# EAGLE library part ATMEGA32U2 (library Atmel)
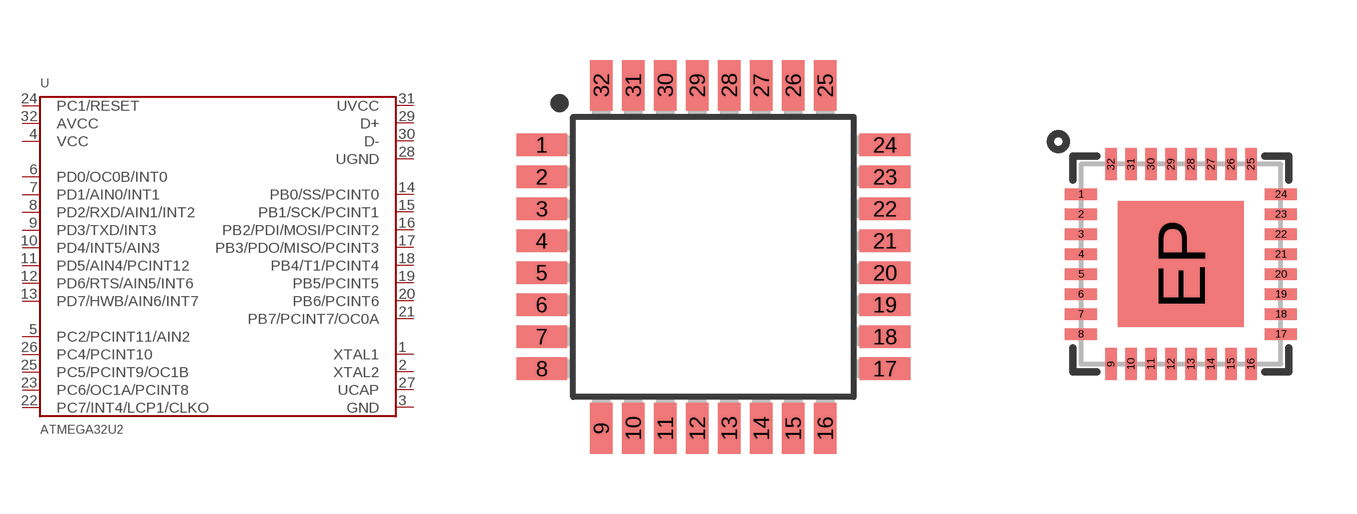
[diagram p1: symbol with the pads of TQFP-32; footprints TQFP-32, QFN-32]

Designator prefix U

## ATMEGA32U2-TQFP32  [TQFP-32]
1  XTAL1
2  XTAL2
3  GND
4  VCC
5  PC2/PCINT11/AIN2
6  PD0/OC0B/INT0
7  PD1/AIN0/INT1
8  PD2/RXD/AIN1/INT2
9  PD3/TXD/INT3
10  PD4/INT5/AIN3
11  PD5/AIN4/PCINT12
12  PD6/RTS/AIN5/INT6
13  PD7/HWB/AIN6/INT7
14  PB0/SS/PCINT0
15  PB1/SCK/PCINT1
16  PB2/PDI/MOSI/PCINT2
17  PB3/PDO/MISO/PCINT3
18  PB4/T1/PCINT4
19  PB5/PCINT5
20  PB6/PCINT6
21  PB7/PCINT7/OC0A
22  PC7/INT4/LCP1/CLKO
23  PC6/OC1A/PCINT8
24  PC1/RESET
25  PC5/PCINT9/OC1B
26  PC4/PCINT10
27  UCAP
28  UGND
29  D+
30  D-
31  UVCC
32  AVCC

## ATMEGA32U2-QFN32  [QFN-32]
1  XTAL1
2  XTAL2
3  GND
4  VCC
5  PC2/PCINT11/AIN2
6  PD0/OC0B/INT0
7  PD1/AIN0/INT1
8  PD2/RXD/AIN1/INT2
9  PD3/TXD/INT3
10  PD4/INT5/AIN3
11  PD5/AIN4/PCINT12
12  PD6/RTS/AIN5/INT6
13  PD7/HWB/AIN6/INT7
14  PB0/SS/PCINT0
15  PB1/SCK/PCINT1
16  PB2/PDI/MOSI/PCINT2
17  PB3/PDO/MISO/PCINT3
18  PB4/T1/PCINT4
19  PB5/PCINT5
20  PB6/PCINT6
21  PB7/PCINT7/OC0A
22  PC7/INT4/LCP1/CLKO
23  PC6/OC1A/PCINT8
24  PC1/RESET
25  PC5/PCINT9/OC1B
26  PC4/PCINT10
27  UCAP
28  UGND
29  D+
30  D-
31  UVCC
32  AVCC
EP  GND

## Footprint TQFP-32 (pad centres in mm)
smd 1.27 x 0.559: 1 -4.293,2.8; 2 -4.293,2; 3 -4.293,1.2; 4 -4.293,0.4; 5 -4.293,-0.4; 6 -4.293,-1.2; 7 -4.293,-2; 8 -4.293,-2.8; 17 4.293,-2.8; 18 4.293,-2; 19 4.293,-1.2; 20 4.293,-0.4; 21 4.293,0.4; 22 4.293,1.2; 23 4.293,2; 24 4.293,2.8
smd 0.559 x 1.27: 9 -2.8,-4.293; 10 -2,-4.293; 11 -1.2,-4.293; 12 -0.4,-4.293; 13 0.4,-4.293; 14 1.2,-4.293; 15 2,-4.293; 16 2.8,-4.293; 25 2.8,4.293; 26 2,4.293; 27 1.2,4.293; 28 0.4,4.293; 29 -0.4,4.293; 30 -1.2,4.293; 31 -2,4.293; 32 -2.8,4.293

## Footprint QFN-32 (pad centres in mm)
smd 0.8 x 0.285: 1 -2.5,1.75; 2 -2.5,1.25; 3 -2.5,0.75; 4 -2.5,0.25; 5 -2.5,-0.25; 6 -2.5,-0.75; 7 -2.5,-1.25; 8 -2.5,-1.75; 17 2.5,-1.75; 18 2.5,-1.25; 19 2.5,-0.75; 20 2.5,-0.25; 21 2.5,0.25; 22 2.5,0.75; 23 2.5,1.25; 24 2.5,1.75
smd 0.285 x 0.8: 9 -1.75,-2.5; 10 -1.25,-2.5; 11 -0.75,-2.5; 12 -0.25,-2.5; 13 0.25,-2.5; 14 0.75,-2.5; 15 1.25,-2.5; 16 1.75,-2.5; 25 1.75,2.5; 26 1.25,2.5; 27 0.75,2.5; 28 0.25,2.5; 29 -0.25,2.5; 30 -0.75,2.5; 31 -1.25,2.5; 32 -1.75,2.5
smd 3.15 x 3.15: EP 0,0